# EAGLE library part CC2541 (library CC2530_PCB_TL - Backup Copy - DO NOT EDIT)
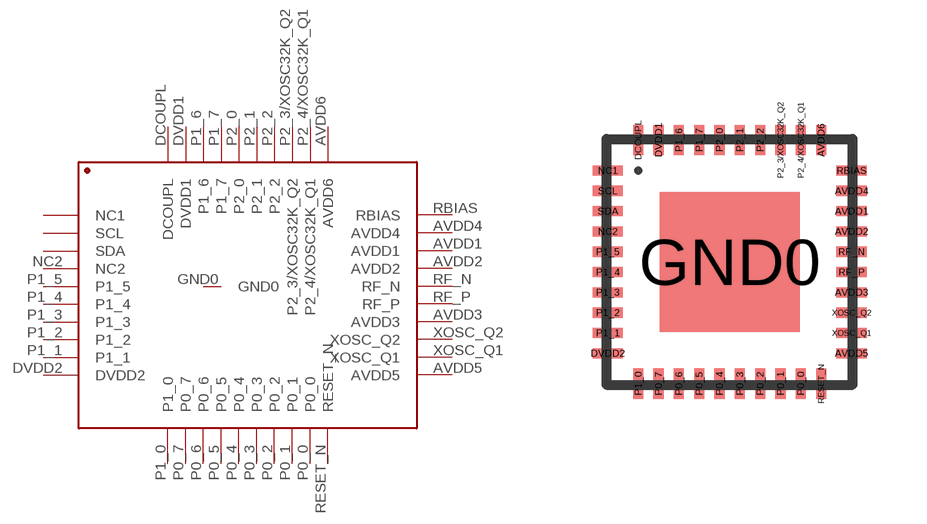
[diagram p15: symbol with the pads of CC2533/41; footprint CC2533/41]

Designator prefix -

## CC2541  [CC2533/41]
AVDD1  AVDD1  pwr
AVDD2  AVDD2  pwr
AVDD3  AVDD3  pwr
AVDD4  AVDD4  pwr
AVDD5  AVDD5  pwr
AVDD6  AVDD6  pwr
DCOUPL  DCOUPL  pwr
DVDD1  DVDD1  pwr
DVDD2  DVDD2  pwr
GND0  GND0  pwr
NC1  NC1  pwr
NC2  NC2  pwr
P0_0  P0_0
P0_1  P0_1
P0_2  P0_2
P0_3  P0_3
P0_4  P0_4
P0_5  P0_5
P0_6  P0_6
P0_7  P0_7
P1_0  P1_0
P1_1  P1_1
P1_2  P1_2
P1_3  P1_3
P1_4  P1_4
P1_5  P1_5
P1_6  P1_6
P1_7  P1_7
P2_0  P2_0
P2_1  P2_1
P2_2  P2_2
P2_3/XOSC32K_Q2  P2_3/XOSC32K_Q2
P2_4/XOSC32K_Q1  P2_4/XOSC32K_Q1
RBIAS  RBIAS
RESET_N  RESET_N  in
RF_N  RF_N
RF_P  RF_P
SCL  SCL  pwr
SDA  SDA  pwr
XOSC_Q1  XOSC_Q1
XOSC_Q2  XOSC_Q2

## Footprint CC2533/41 (pad centres in mm)
smd 0.762 x 0.254: AVDD1 3.048,1.27; AVDD2 3.048,0.762; AVDD3 3.048,-0.762; AVDD4 3.048,1.778; AVDD5 3.048,-2.286; DVDD2 -3.048,-2.286; NC1 -3.048,2.286; NC2 -3.048,0.762; P1_1 -3.048,-1.778; P1_2 -3.048,-1.27; P1_3 -3.048,-0.762; P1_4 -3.048,-0.254; P1_5 -3.048,0.254; RBIAS 3.048,2.286; RF_N 3.048,0.254; RF_P 3.048,-0.254; SCL -3.048,1.778; SDA -3.048,1.27; XOSC_Q1 3.048,-1.778; XOSC_Q2 3.048,-1.27
smd 0.254 x 0.762: AVDD6 2.286,3.048; DCOUPL -2.286,3.048; DVDD1 -1.778,3.048; P0_0 1.778,-3.048; P0_1 1.27,-3.048; P0_2 0.762,-3.048; P0_3 0.254,-3.048; P0_4 -0.254,-3.048; P0_5 -0.762,-3.048; P0_6 -1.27,-3.048; P0_7 -1.778,-3.048; P1_0 -2.286,-3.048; P1_6 -1.27,3.048; P1_7 -0.762,3.048; P2_0 -0.254,3.048; P2_1 0.254,3.048; P2_2 0.762,3.048; P2_3/XOSC32K_Q2 1.27,3.048; P2_4/XOSC32K_Q1 1.778,3.048; RESET_N 2.286,-3.048
smd 3.5 x 3.5: GND0 0,0